# Altium schematic symbol library Debug.SchLib: 9 symbols
Pins are listed as number, name and electrical type; pins without a type are passive.

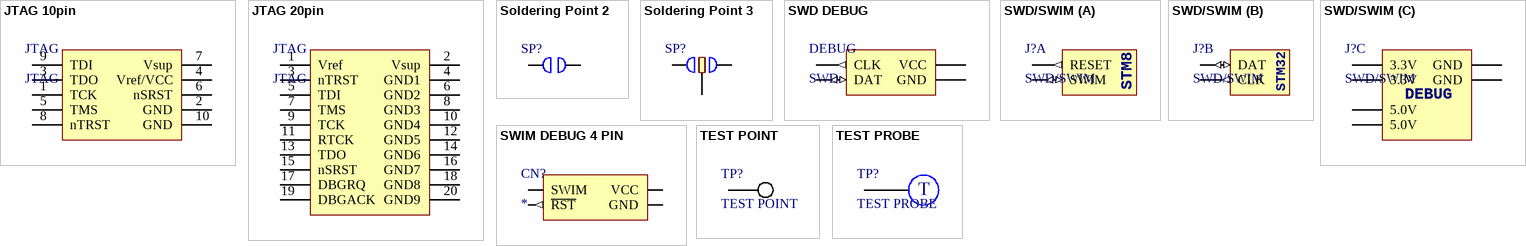
[diagram p0: symbols JTAG 10pin to TEST PROBE]

## JTAG 10pin
designator JTAG, comment JTAG
footprint 10 PIN HEADER 2x5
pins: 1 TCK, 2 GND, 3 TDO, 4 Vref/VCC, 5 TMS, 6 nSRST, 7 Vsup, 8 nTRST, 9 TDI, 10 GND

## JTAG 20pin
designator JTAG, comment JTAG
footprint 20 PIN HEADER 2x10
pins: 1 Vref, 2 Vsup, 3 nTRST, 4 GND1, 5 TDI, 6 GND2, 7 TMS, 8 GND3, 9 TCK, 10 GND4, 11 RTCK, 12 GND5, 13 TDO, 14 GND6, 15 nSRST, 16 GND7, 17 DBGRQ, 18 GND8, 19 DBGACK, 20 GND9

## Soldering Point 2
designator SP?, comment Soldering Point  (value not drawn)
footprint Soldering Point 2
pins: 1, 2

## Soldering Point 3
designator SP?, comment Soldering Point  (value not drawn)
footprint Soldering Point 3
pins: 1, 2, 3

## SWD DEBUG
designator DEBUG, comment SWD
SWD ST DEBUG
footprint PIN HEADER SINGLE 4
pins: 1 VCC (power), 2 CLK (out), 3 GND (power), 4 DAT (io)

## SWD/SWIM
designator J?
SWD/SWIM combined debug connector
footprint 10 PIN HEADER 2x5
part A pins: 1 RESET (out), 3 SWIM (io)
part B pins: 2 CLK (out), 4 DAT (io)
part C pins: 5 GND (power), 6 GND (power), 7 3.3V (power), 8 3.3V (power), 9 5.0V (power), 10 5.0V (power)
part A text: STM8
part B text: STM32
part C text: DEBUG

## SWIM DEBUG 4 PIN
designator CN?
SWIM DEBUG 4 PIN
footprint SWIM DEGUB 4 pin
footprint SWIM ONPCB
footprint PIN HEADER SINGLE 4
pins: 1 VCC, 2 SWIM (io), 3 GND, 4 ~{RST} (out)

## TEST POINT
designator TP?
footprint TEST POING SMD
pins: 0 TP

## TEST PROBE
designator TP?
footprint Test probe P100-B1
footprint P100-H2 (Test probe)
pins: 1 "TEST PROBE"
text: T